# EAGLE library part J00-0045NL (library J00-0045NL)
Conn RJ-45 Integrated Magnetics F 8 POS 2.54mm Solder RA Thru-Hole 12 Terminal 1 Port Cat 5/Cat 6
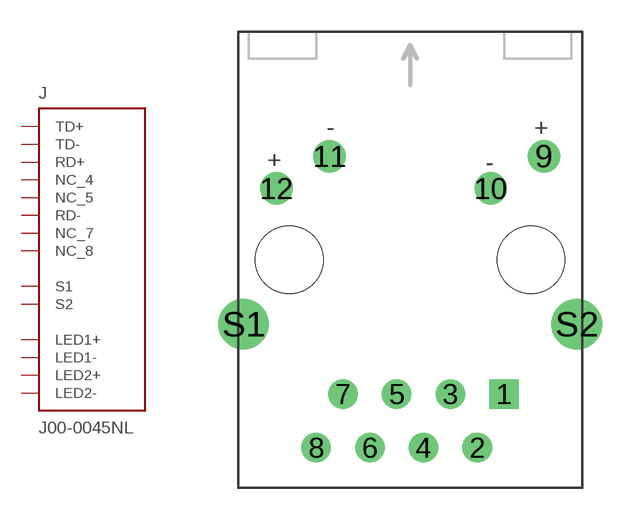
[diagram p0: symbol with the pads of PULSE_J00-0045NL; footprint PULSE_J00-0045NL]

Designator prefix J

## J00-0045NL (AVAILABILITY: Unavailable; DESCRIPTION: Conn RJ-45 Integrated Magnetics F 8 POS 2.54mm Solder RA Thru-Hole 12 Terminal 1 Port Cat 5/Cat 6; MF: Pulse Electronics; MP: J00-0045NL; PACKAGE: None; PRICE: None)  [PULSE_J00-0045NL]
1  TD+
2  TD-
3  RD+
4  NC_4
5  NC_5
6  RD-
7  NC_7
8  NC_8
9  LED1+
10  LED1-
11  LED2-
12  LED2+
S1  S1
S2  S2

## Footprint PULSE_J00-0045NL (pad centres in mm)
StarJack 1x1 Tab-DOWN RJ45
drill 0.89 square: 1 4.445,-6.35
drill 0.89: 2 3.175,-8.89; 3 1.905,-6.35; 4 0.635,-8.89; 5 -0.635,-6.35; 6 -1.905,-8.89; 7 -3.175,-6.35; 8 -4.445,-8.89
drill 1.02: 9 6.325,4.9; 10 3.81,3.38; 11 -3.81,4.9; 12 -6.325,3.38
drill 1.6: S1 -7.875,-3.05; S2 7.875,-3.05
hole 3.2 at -5.715,0
hole 3.2 at 5.715,0